# Altium footprint library L1MCRGB0028000MP0.PcbLib: 1 footprints
Each footprint in its own frame and in the unit in brackets; x right, y up, seen from the top. Pads: shape width x height; smd on the part's side, far side on the other; paste and mask are expansions set on the pad; w line width, h text height; cw(c..) or ccw(c..) is an arc to the next point about the centre after c.
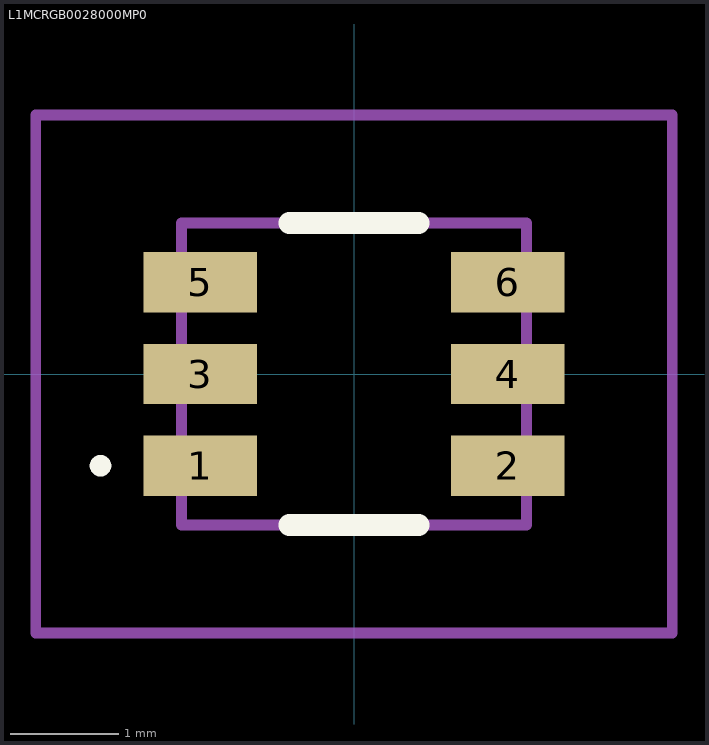
[diagram p0: the footprint, top view; thin cyan lines are the x and y axes]

## L1MCRGB0028000MP0 [mm]
pads (6):
  rect 1.05x0.56 smd: 1(-1.425,-0.85) 2(1.425,-0.85) 3(-1.425,0) 4(1.425,0) 5(-1.425,0.85) 6(1.425,0.85)
Top Overlay:
  lines w0.1: -2.4,-0.85 -2.4,-0.85 ; -2.4,-0.85 ccw(c-2.35,-0.85) -2.3,-0.85 ; -2.4,-0.85 cw(c-2.35,-0.85) -2.3,-0.85 ; -2.3,-0.85 -2.3,-0.85
  lines w0.2: -0.6,-1.4 0.6,-1.4 ; -0.6,1.4 0.6,1.4
Mechanical 15:
  lines w0.1: -1.6,-1.4 1.6,-1.4 1.6,1.4 -1.6,1.4 -1.6,-1.4
Mechanical 20:
  lines w0.1: -2.95,-2.4 2.95,-2.4 2.95,2.4 -2.95,2.4 -2.95,-2.4